# Altium schematic symbol library PROTOTYPE_Library.SchLib: 49 symbols
Pins are listed as number, name and electrical type; pins without a type are passive.

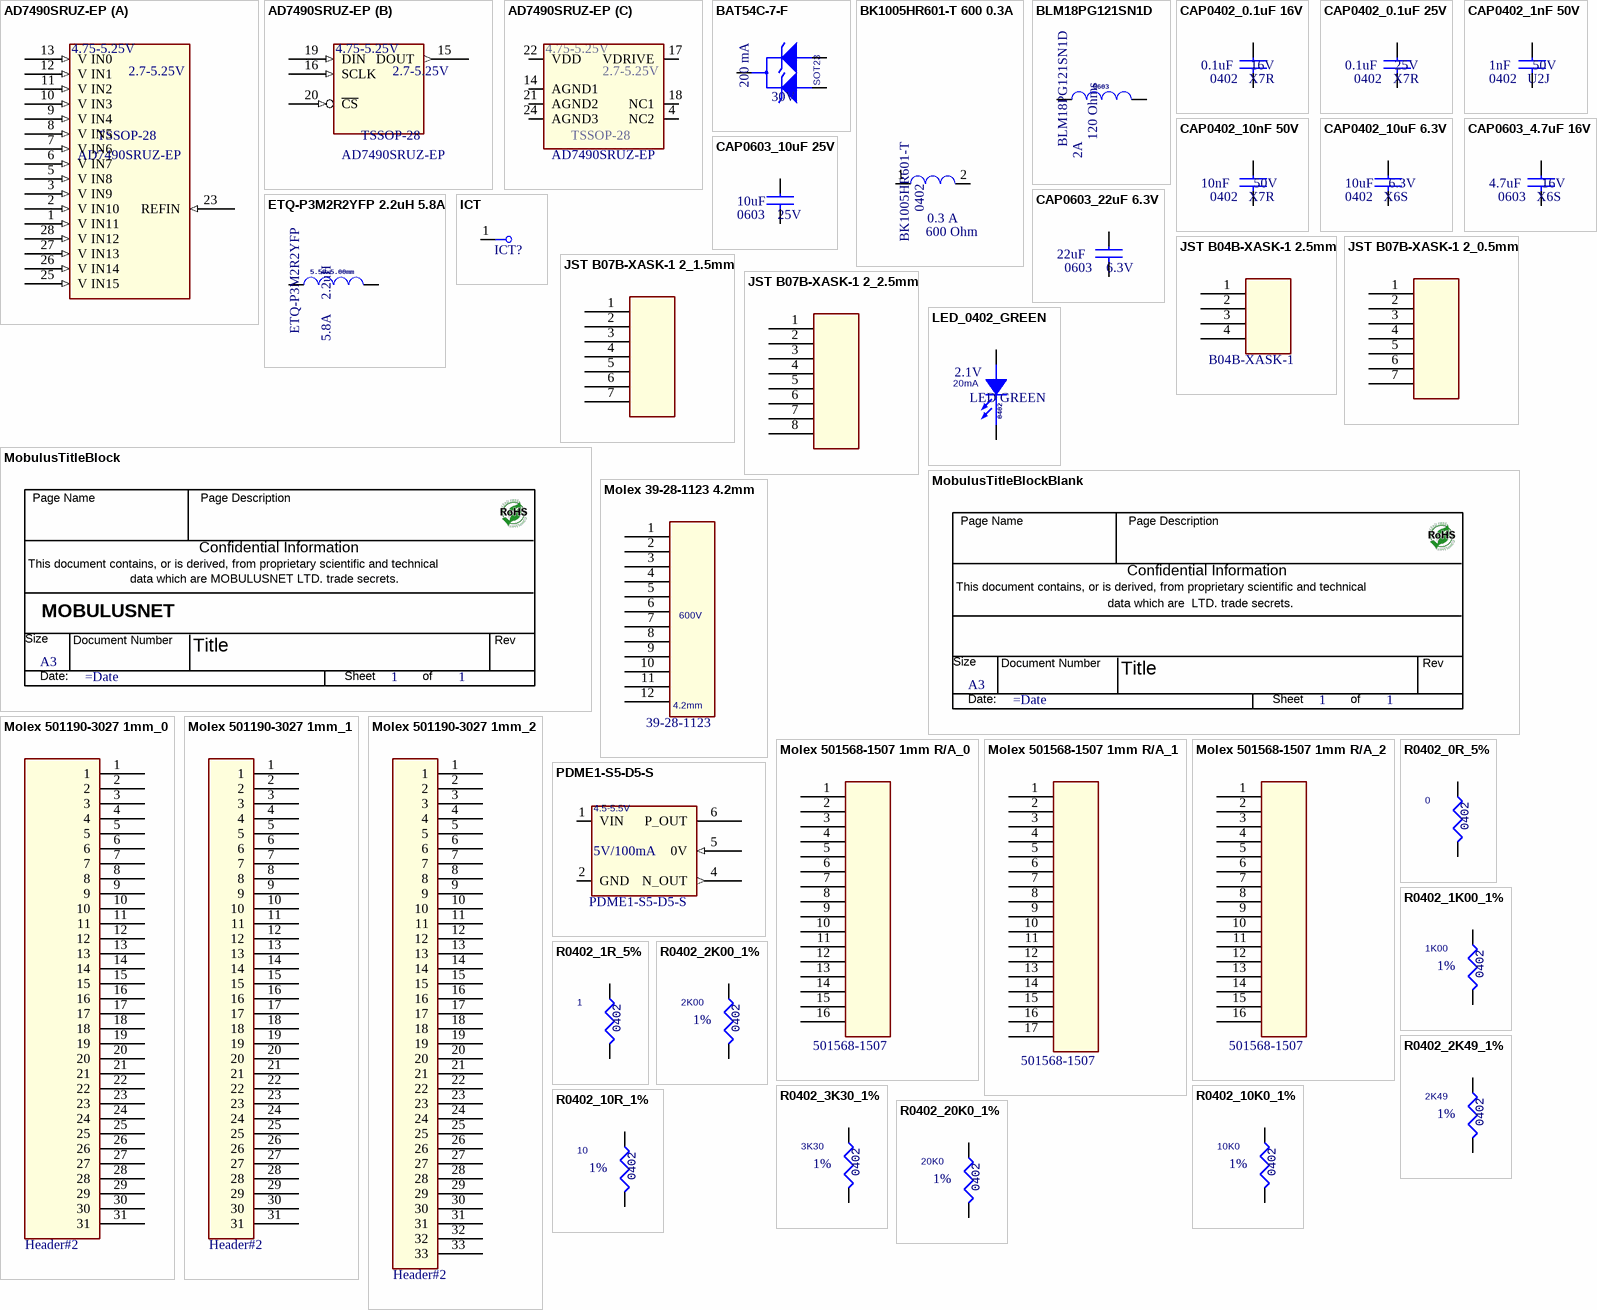
[diagram p0: symbols AD7490SRUZ-EP to R0402_20K0_1%]

## AD7490SRUZ-EP
designator U?  Voltage: 2.7-5.25V  VDD: 4.75-5.25V  PcbFootprint: TSSOP-28
IC ADC 12BIT 1MSPS 16CH 28TSSOP; PART NUMBER: AD7490SRUZ-EP-RL7; fSCLK: 20 MHz; Resolution: 12-Bit; OVPN: OVIC00219; MFG: Analog Devices Inc.; Throughput rates: 1 MSPS
footprint TSSOP-28_AD7490SRUZ
part A pins: 1 V IN11 (in), 2 V IN10 (in), 3 V IN9 (in), 5 V IN8 (in), 6 V IN7 (in), 7 V IN6 (in), 8 V IN5 (in), 9 V IN4 (in), 10 V IN3 (in), 11 V IN2 (in), 12 V IN1 (in), 13 V IN0 (in), 23 REFIN (in), 25 V IN15 (in), 26 V IN14 (in), 27 V IN13 (in), 28 V IN12 (in)
part B pins: 15 DOUT (out), 16 SCLK (in), 19 DIN (in), 20 ~{CS} (in)
part C pins: 4 NC2, 14 AGND1 (power), 17 VDRIVE (power), 18 NC1, 21 AGND2 (power), 22 VDD (power), 24 AGND3 (power)

## BAT54C-7-F
designator D?  Current: 200 mA  VOLTAGE: 30V  FootPrint: SOT23
DIODE ARRAY SCHOTTKY 30V SOT23-3; PART NUMBER: BAT54C-7-F; OVPN: OVLS00005; MFG: Diodes Incorporated
footprint SOT23_BAT54
pins: 1 ANODE1, 2 ANODE2, 3 CATHODE
1 alternate drawing of the same symbol

## BK1005HR601-T 600 0.3A
designator L?, comment BK1005HR601-T  Impedance: 600 Ohm  PcbFootPrint: 0402  Current: 0.3 A
FERRITE BEAD 600 OHM 0402 1LN; OVPN: OVLF00014; NO_XNET_CONNECTION: True; MFG: Taiyo Yuden; Part Number: BK1005HR601-T
footprint L0402
pins: 1, 2
1 alternate drawing of the same symbol

## BLM18PG121SN1D
designator L?  Impedance: 120 Ohms  Current: 2A
EMI Suppression filter 2A; NO_XNET_CONNECTION: True; OVPN: OVLF00001; MFG: Murata Electronics; PART Number: BLM18PG121SN1D
footprint L0603
pins: 1, 2
1 alternate drawing of the same symbol
text: 0603

## CAP0402_0.1uF 16V
designator C?, comment 0.1uF  VOLTAGE: 16V  PCBFootPrint: 0402   X7R
CAP_CER_0.1uF_16V_X7R_0402; Part Number: CC0402KRX7R7BB104; NO_XNET_CONNECTION: True; TYPE: X7R; OVPN: OVCC00002; MFG: Yageo; ALT_SYMBOLS_HARD: 0402_RND; ALT_SYMBOLS: 0402_RND
footprint 0402
pins: 1, 2
1 alternate drawing of the same symbol

## CAP0402_0.1uF 25V
designator C?, comment 0.1uF  PCBFootPrint: 0402  TYPE: X7R  VOLTAGE: 25V
CAP CER 0.1UF 25V X7R 0402; Part Number: GRM155R71E104KE14D; ALT_SYMBOLS: 0402_RND; MFG: Murata Electronics; NO_XNET_CONNECTION: True; OVPN: OVCC00093
footprint 0402
pins: 1, 2
1 alternate drawing of the same symbol

## CAP0402_1nF 50V
designator C?, comment 1nF  VOLTAGE: 50V  PCBFootPrint: 0402   U2J
CAP_CER_1nF_50V_0402_U2J; Part Number: C0402C102J5JAC7867; TYPE: U2J; OVPN: OVCC00016; NO_XNET_CONNECTION: True; MFG: KEMET; ALT_SYMBOLS: 0402_RND
footprint 0402
pins: 1, 2
1 alternate drawing of the same symbol

## CAP0402_10nF 50V
designator C?, comment 10nF  PCBFootPrint: 0402   X7R  VOLTAGE: 50V
CAP CER 10000PF 50V X7R 0402; Part Number: CL05B103KB5NNNC; ALT_SYMBOLS: 0402_RND; MFG: Samsung Electro-Mechanics; NO_XNET_CONNECTION: True; OVPN: OVCC00063; TYPE: X7R
footprint 0402
pins: 1, 2
1 alternate drawing of the same symbol

## CAP0402_10uF 6.3V
designator C?, comment 10uF  VOLTAGE: 6.3V  PCBFootPrint: 0402   X6S
CAP CER 10UF 6.3V X6S 0402; Part Number: GRM155C80J106ME11J; OVPN: OVCC00087; NO_XNET_CONNECTION: True; MFG: Murata Electronics; TYPE: X6S
footprint 0402
pins: 1, 2
1 alternate drawing of the same symbol

## CAP0603_4.7uF 16V
designator C?, comment 4.7uF  VOLTAGE: 16V  PCBFootPrint: 0603   X6S
CAP_CER_4.7UF_16V_X6S_0603; Part Number: C1608X6S1C475M080AC; OVPN: OVCC00034; NO_XNET_CONNECTION: True; MFG: TDK Corporation
footprint 0603
pins: 1, 2
1 alternate drawing of the same symbol

## CAP0603_10uF 25V
designator C?, comment 10uF  VOLTAGE: 25V  PCBFootPrint: 0603
CAP CER 10UF 25V X5R 0603; Part Number: CL10A106MA8NRNC; OVPN: OVCC00088; MFG: Samsung Electro-Mechanics; TYPE: X5R
footprint 0603
pins: 1, 2
1 alternate drawing of the same symbol

## CAP0603_22uF 6.3V
designator C?, comment 22uF  PCBFootPrint: 0603  VOLTAGE: 6.3V
CAP CER 22UF 6.3V X6S 0603; Part Number: GRM188C80J226ME15D; MFG: Murata Electronics; OVPN: OVCC00080; TYPE: X6S
footprint 0603
pins: 1, 2
1 alternate drawing of the same symbol

## ETQ-P3M2R2YFP 2.2uH 5.8A
designator L?, comment ETQ-P3M2R2YFP  Inductance: 2.2uH  Current: 5.8A
FIXED IND 2.2UH 5.8A 24.8 MOHM; MFG: Panasonic Electronic Components; OVPN: OVLP00029; PART NUMBER: ETQ-P3M2R2YFP
footprint ETQ-P3M2R2YFP
pins: 1, 2
1 alternate drawing of the same symbol
text: 5.50x5.00mm

## ICT
designator ICT?
ASSY: N/A
footprint ICT
pins: 1

## JST B04B-XASK-1 2.5mm
designator J?, comment B04B-XASK-1
2.5mm; P/N: PO11108404
footprint B04B-XASK-1
pins: 1, 2, 3, 4

## JST B07B-XASK-1 2_0.5mm
designator J?, comment B07B-XASK-1  (value not drawn)
2.5mm; P/N: PO11108410
footprint B07B-XASK-1
pins: 1, 2, 3, 4, 5, 6, 7

## JST B07B-XASK-1 2_1.5mm
designator J?, comment B07B-XASK-1  (value not drawn)
2.5mm; P/N: PO11108410
footprint B07B-XASK-1
pins: 1, 2, 3, 4, 5, 6, 7

## JST B07B-XASK-1 2_2.5mm
designator J?, comment B07B-XASK-1  (value not drawn)
2.5mm; P/N: PO11108410
footprint B07B-XASK-1
pins: 1, 2, 3, 4, 5, 6, 7, 8

## LED_0402_GREEN
designator D?, comment LED GREEN  VOLTAGE: 2.1V  Current: 20mA
LED GREEN CLEAR CHIP SMD; PART Number: XZVG68W-2; OVPN: OVLS00001; MFG: SunLED
footprint LED_0402
pins: 1 C, 2 A
1 alternate drawing of the same symbol
text: 0402

## MobulusTitleBlock
designator *  Page Size: A3  Page Number: 1  (hidden comment: *)  (graphical)
Page Create Date: March  8, 1995; Page Count: 1; Page Modify Date: =Date
text: Page Name; Page Description; Confidential Information; This document contains, or is derived, from proprietary scientific and technical; data which are MOBULUSNET LTD. trade secrets.; MOBULUSNET; Size; Document Number; Rev; Title; Date:; Sheet; of

## MobulusTitleBlockBlank
designator *  Page Size: A3  Page Number: 1  (hidden comment: *)  (graphical)
Page Create Date: March  8, 1995; Page Count: 1; Page Modify Date: =Date
text: Page Name; Page Description; Confidential Information; This document contains, or is derived, from proprietary scientific and technical; data which are  LTD. trade secrets.; Size; Document Number; Rev; Title; Date:; Sheet; of

## Molex 39-28-1123 4.2mm
designator J?, comment 39-28-1123  Power: 600V  Pitch: 4.2mm
9A; Lumenis Part Number: CN-2005424
footprint 39-28-1123
pins: 1, 2, 3, 4, 5, 6, 7, 8, 9, 10, 11, 12

## Molex 501190-3027 1mm_0
designator J?, comment Header#2
Lumenis Part Number: CN-2006128; Current: 1 A; Foot Print: 1.00mm; Power: 50V
footprint 501190-3027
pins: 1, 2, 3, 4, 5, 6, 7, 8, 9, 10, 11, 12, 13, 14, 15, 16, 17, 18, 19, 20, 21, 22, 23, 24, 25, 26, 27, 28, 29, 30, 31

## Molex 501190-3027 1mm_1
designator J?, comment Header#2
Lumenis Part Number: CN-2006128; Current: 1 A; Foot Print: 1.00mm; Power: 50V
footprint 501190-3027
pins: 1, 2, 3, 4, 5, 6, 7, 8, 9, 10, 11, 12, 13, 14, 15, 16, 17, 18, 19, 20, 21, 22, 23, 24, 25, 26, 27, 28, 29, 30, 31

## Molex 501190-3027 1mm_2
designator J?, comment Header#2
Lumenis Part Number: CN-2006128; Power: 50V; Foot Print: 1.00mm; Current: 1 A
footprint 501190-3027
pins: 1, 2, 3, 4, 5, 6, 7, 8, 9, 10, 11, 12, 13, 14, 15, 16, 17, 18, 19, 20, 21, 22, 23, 24, 25, 26, 27, 28, 29, 30, 31, 32, 33

## Molex 501568-1507 1mm R/A_0
designator J?, comment 501568-1507
Lumenis Part Number: CN-2002538
footprint 501568-1507
pins: 1, 2, 3, 4, 5, 6, 7, 8, 9, 10, 11, 12, 13, 14, 15, 16

## Molex 501568-1507 1mm R/A_1
designator J?, comment 501568-1507
Lumenis Part Number: CN-2002538
footprint 501568-1507
pins: 1, 2, 3, 4, 5, 6, 7, 8, 9, 10, 11, 12, 13, 14, 15, 16, 17

## Molex 501568-1507 1mm R/A_2
designator J?, comment 501568-1507
Lumenis Part Number: CN-2002538
footprint 501568-1507
pins: 1, 2, 3, 4, 5, 6, 7, 8, 9, 10, 11, 12, 13, 14, 15, 16

## PDME1-S5-D5-S
designator U?  Power: 4.5-5.5V  Voltage: 5V/100mA
DC DC CONVERTER +/-5V 1W; MFG: CUI Inc.; OVPN: OVIC00225; PART NUMBER: PDME1-S5-D5-S
footprint PDME1-S5-D5-S
pins: 1 VIN (power), 2 GND (power), 4 N_OUT (out), 5 0V (in), 6 P_OUT (oc)

## R0402_0R_5%
designator R?, comment 0
RES SMD 0 OHM JUMPER 1/16W 0402; Part Number: RC0402JR-070RL; NO_XNET_CONNECTION: True; OVPN: OVRS00001; MFG: Yageo; Current: 1A; Power: 1/16W; MOUNTING: SMT
footprint 0402
pins: 1, 2
1 alternate drawing of the same symbol
text: 0402

## R0402_1K00_1%
designator R?, comment 1K00  Tolerance: 1%
RES SMD 1K OHM 1% 1/16W 0402; Part Number: RC0402FR-071KL; NO_XNET_CONNECTION: True; OVPN: OVRS00022; MFG: Yageo; Power: 1/16W; MOUNTING: SMT
footprint 0402
pins: 1, 2
1 alternate drawing of the same symbol
text: 0402

## R0402_1R_5%
designator R?, comment 1
RES SMD 1R0 5% 1/16W 0402; Part Number: CRGCQ0402J1R0; NO_XNET_CONNECTION: True; OVPN: OVRS00076; MFG: TE Connectivity Passive Product; Current: 1A; Power: 1/16W; MOUNTING: SMT
footprint 0402
pins: 1, 2
1 alternate drawing of the same symbol
text: 0402

## R0402_2K00_1%
designator R?, comment 2K00  Tolerance: 1%
RES SMD 2K OHM 1% 1/16W 0402; Part Number: RC0402FR-072KL; NO_XNET_CONNECTION: True; OVPN: OVRS00069; MFG: Yageo; Power: 1/16W; MOUNTING: SMT
footprint 0402
pins: 1, 2
1 alternate drawing of the same symbol
text: 0402

## R0402_2K49_1%
designator R?, comment 2K49  Tolerance: 1%
RES 2K49 1% 1/16W 0402; Part Number: RC0402FR-072K49L; NO_XNET_CONNECTION: True; OVPN: OVRS00004; MFG: Yageo; Power: 1/16W; MOUNTING: SMT
footprint 0402
pins: 1, 2
1 alternate drawing of the same symbol
text: 0402

## R0402_3K30_1%
designator R?, comment 3K30  Tolerance: 1%
RES 3K3 1% 1/16W 0402; Part Number: RT0402FRE073K3L; OVPN: OVRS00028; NO_XNET_CONNECTION: True; MFG: Yageo; Power: 1/16W; MOUNTING: SMT
footprint 0402
pins: 1, 2
1 alternate drawing of the same symbol
text: 0402

## R0402_10K0_1%
designator R?, comment 10K0  Tolerance: 1%
RES SMD 10K OHM 1% 1/16W 0402; Part Number: RC0402FR-0710KL; NO_XNET_CONNECTION: True; OVPN: OVRS00009; MFG: Yageo; Power: 1/16W; MOUNTING: SMT
footprint 0402
pins: 1, 2
1 alternate drawing of the same symbol
text: 0402

## R0402_10R_1%
designator R?, comment 10  Tolerance: 1%
RES SMD 10 OHM 1% 1/16W 0402; Part Number: RC0402FR-0710RL; NO_XNET_CONNECTION: True; OVPN: OVRS00036; MFG: Yageo; Power: 1/16W; MOUNTING: SMT
footprint 0402
pins: 1, 2
1 alternate drawing of the same symbol
text: 0402

## R0402_20K0_1%
designator R?, comment 20K0  Tolerance: 1%
RES SMD 20K OHM 1% 1/16W 0402; Part Number: RC0402FR-0720KL; OVPN: OVRS00142; NO_XNET_CONNECTION: True; MFG: Yageo; Power: 1/16W; MOUNTING: SMT
footprint 0402
pins: 1, 2
1 alternate drawing of the same symbol
text: 0402

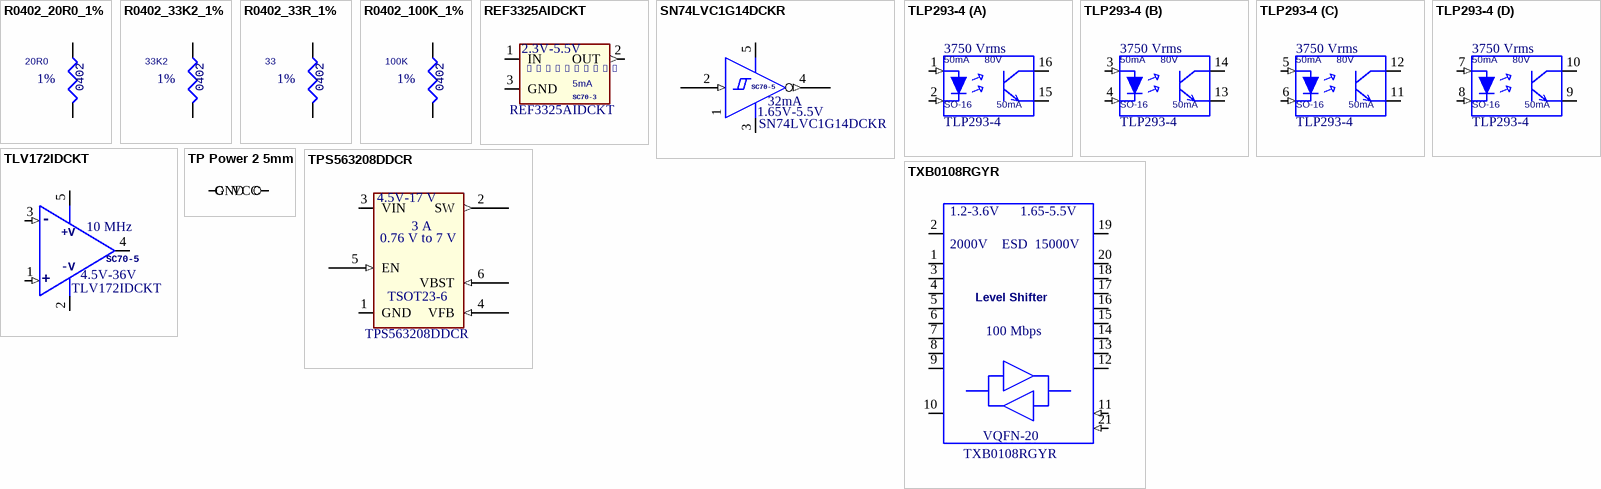
[diagram p1: symbols R0402_20R0_1% to TXB0108RGYR]

## R0402_20R0_1%
designator R?, comment 20R0  Tolerance: 1%
RES SMD 20 OHM 1% 1/16W 0402; Part Number: RC0402FR-0720RL; OVPN: OVRS00055; NO_XNET_CONNECTION: True; MFG: Yageo; Power: 1/16W; MOUNTING: SMT
footprint 0402
pins: 1, 2
1 alternate drawing of the same symbol
text: 0402

## R0402_33K2_1%
designator R?, comment 33K2  Tolerance: 1%
RES 33K2 1% 1/16W 0402; Part Number: RMCF0402FT33K2; NO_XNET_CONNECTION: True; OVPN: OVRS00131; MFG: Stackpole Electronics Inc; Power: 1/16W; MOUNTING: SMT
footprint 0402
pins: 1, 2
1 alternate drawing of the same symbol
text: 0402

## R0402_33R_1%
designator R?, comment 33  Tolerance: 1%
RES 33R 1% 1/5W 0402; Part Number: RCS040233R0FKED; NO_XNET_CONNECTION: True; Power: 1/16W; OVPN: OVRS00013; MFG: Vishay Dale; MOUNTING: SMT
footprint 0402
pins: 1, 2
1 alternate drawing of the same symbol
text: 0402

## R0402_100K_1%
designator R?, comment 100K  Tolerance: 1%
RES SMD 100K OHM 1% 1/16W 0402; Part Number: RC0402FR-07100KL; NO_XNET_CONNECTION: True; OVPN: OVRS00003; MFG: Yageo; Power: 1/16W; MOUNTING: SMT
footprint 0402
pins: 1, 2
1 alternate drawing of the same symbol
text: 0402

## REF3325AIDCKT
designator U?  Current: 5mA  Definition: 2.5V�0.15%  Voltage: 2.3V-5.5V
IC VREF SERIES 0.15% SC70-3; MFG: Texas Instruments; OVPN: OVIC00251; PART NUMBER: REF3325AIDCKT
footprint SC70-3_REF3320AIDCKR
pins: 1 IN (power), 2 OUT (out), 3 GND (power)
text: SC70-3

## SN74LVC1G14DCKR
designator U?  VOLTAGE: 1.65V-5.5V  Current: 32mA
IC INVERTER SCHMITT 1CH SC70-5; OVPN: OVIC00204; MFG: Texas Instruments; PART NUMBER: SN74LVC1G14DCKR
footprint SC70-5_SN74LVC1G14DCKR
pins: 1 NC (in), 2 I (in), 3 GND (power), 4 O (out), 5 VCC (power)
text: SC70-5

## TLP293-4
designator U?  Power: 50mA      80V  ISO: 3750 Vrms  FootPrint: SO-16  Current Power: 50mA
OPTOISOLATOR 3.75KV TRANS SO16; PART NUMBER: TLP293-4(V4,E; OVPN: OVIC00228; MFG: Toshiba Semiconductor and Storage
footprint SO-16_TLP293-4
part A pins: 1 A (in), 2 K (in), 15 E (oe), 16 C (oc)
part B pins: 3 A (in), 4 K (in), 13 E (oe), 14 C (oc)
part C pins: 5 A (in), 6 K (in), 11 E (oe), 12 C (oc)
part D pins: 7 A (in), 8 K (in), 9 E (oe), 10 C (oc)

## TLV172IDCKT
designator U?  Bandwidth: 10 MHz  VOLTAGE: 4.5V-36V
IC OPAMP GP 1 CIRCUIT SC70-5; MFG: Texas Instruments; OVPN: OVIC00220; PART NUMBER: TLV172IDCKT
footprint SC70-5_TLV172IDCKT
pins: 1 +In (in), 2 -V (power), 3 -In (in), 4 OutPut (oc), 5 +V (power)
text: -; SC70-5; +

## TP Power 2 5mm
designator TP?  (value not drawn)
CONN HEADER VERT 2POS 5MM; PART NUMBER: M20-9990246; OVPN: OVJS00023; MFG: Harwin Inc.; ASSY: NC
footprint jump2_th5mm
pins: 1 VCC, 2 GND
1 alternate drawing of the same symbol

## TPS563208DDCR
designator U?  Current: 3 A  OUT_VOLTAGE: 0.76 V to 7 V  PcbFootprint: TSOT23-6  VOLTAGE: 4.5V-17 V
IC REG BUCK ADJ 3A TSOT23-6; MFG: Texas Instruments; OVPN: OVIC00130; PART NUMBER: TPS563208DDCR
footprint TSOT23-6_TPS563208DDCR
pins: 1 GND (power), 2 SW (out), 3 VIN (power), 4 VFB (in), 5 EN (in), 6 VBST (in)

## TXB0108RGYR
designator U?  Data rate: 100 Mbps  Voltage: 1.2-3.6V      1.65-5.5V  PcbFootprint: VQFN-20  ESD: 2000V    ESD  15000V
IC ESD SUP TVS DIODES USB OTG COMPANION DEVICE; OVPN: OVIC00147; MFG: Texas Instruments; PART NUMBER: TXB0108RGYR
footprint VQFN-20_TXB0108
pins: 1 A1 (io), 2 VCCA (power), 3 A2 (io), 4 A3 (io), 5 A4 (io), 6 A5 (io), 7 A6 (io), 8 A7 (io), 9 A8 (io), 10 OE (io), 11 GND (in), 12 B8 (io), 13 B7 (io), 14 B6 (io), 15 B5 (io), 16 B4 (io), 17 B3 (io), 18 B2 (io), 19 VCCB (power), 20 B1 (io), 21 EP (in)
text: Level Shifter